# Altium schematic symbol library LDO-SOT223.SchLib: 1 symbol
Pins are listed as number, name and electrical type; pins without a type are passive.

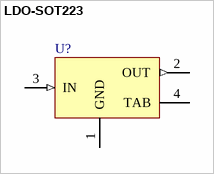
[diagram p0: symbol LDO-SOT223]

## LDO-SOT223
designator U?
pins: 1 GND (power), 2 OUT (out), 3 IN (in), 4 TAB (power)